# EAGLE library part AD8221* (library tdcs)
AD8221 is a precision Instrumentation amplifier with user selectable gain. A resistor across the Rg pins selects gain from 1-1000, supply from ±2.3V to ±18V. Extremeley high CMRR, 80dB with A package, 90dB with B package. Datasheet <http://www.analog.com/static/imported-files/data_sheets/AD8221.pdf>
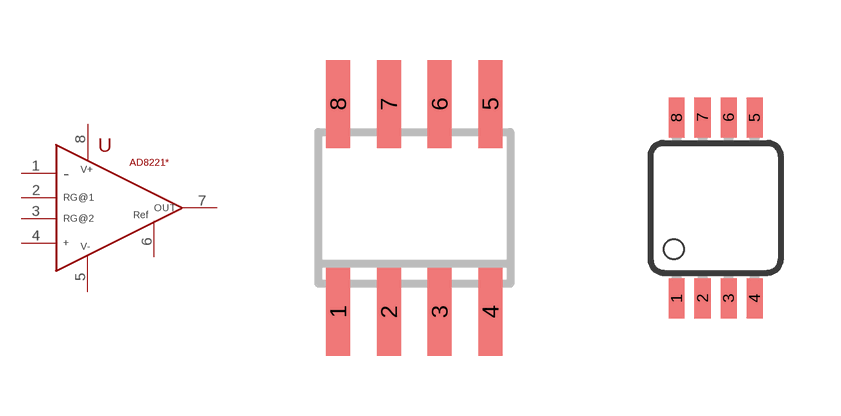
[diagram p4: symbol with the pads of SO8; footprints SO8, MSOP08]

Designator prefix U

## AD8221AR (ROHS: Z), AD8221BR (ROHS: Z)  [SO8]
1  -
2  RG  pas
3  RG  pas
4  +
5  V-  in
6  REF
7  OUT  out
8  V+  in

## AD8221ARM (ROHS: Z)  [MSOP08]
Pads as for SO8

## Footprint SO8 (pad centres in mm)
8-Lead Small Outline IC (SO-8) Source: http://www.analog.com/UploadedFiles/Data_Sheets/703465986AD8611_2_0.pdf
smd 0.6 x 2.2: 1 -1.905,-2.6; 2 -0.635,-2.6; 3 0.635,-2.6; 4 1.905,-2.6; 5 1.905,2.6; 6 0.635,2.6; 7 -0.635,2.6; 8 -1.905,2.6

## Footprint MSOP08 (pad centres in mm)
8-Lead micro SO (RM-8) Source: http://www.analog.com/UploadedFiles/Data_Sheets/703465986AD8611_2_0.pdf
smd 0.4 x 1: 1 -0.976,-2.263; 2 -0.326,-2.263; 3 0.324,-2.263; 4 0.974,-2.263; 5 0.974,2.262; 6 0.324,2.262; 7 -0.326,2.262; 8 -0.976,2.262